# EAGLE library part LIS3DE_TPS61175 (library pendulum_control_board)
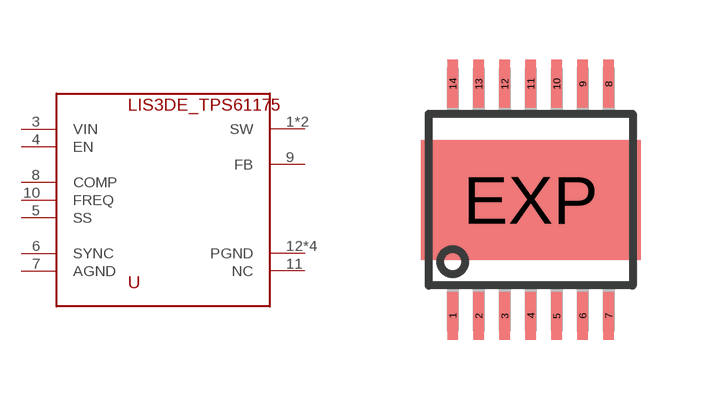
[diagram p6: symbol with the pads of LIS3DE_HTSSOP14PWP; footprint LIS3DE_HTSSOP14PWP]

Designator prefix -

## LIS3DE_TPS61175  [LIS3DE_HTSSOP14PWP]
1  SW
2  SW
3  VIN
4  EN
5  SS
6  SYNC
7  AGND
8  COMP
9  FB
10  FREQ
11  NC
12  PGND
13  PGND
14  PGND
EXP  PGND

## Footprint LIS3DE_HTSSOP14PWP (pad centres in mm)
TPS40055PWP (R-PDSO-G**) PowerPAD (TM) 14 pol. PLASTIC SMALL-OUTLINE PACKAGE Source: www.ti.com ... TPS40055 package.pdf & slma002.pdf
smd 0.27 x 1.2: 1 -1.95,-2.9; 2 -1.3,-2.9; 3 -0.65,-2.9; 4 0,-2.9; 5 0.65,-2.9; 6 1.3,-2.9; 7 1.95,-2.9; 8 1.95,2.9; 9 1.3,2.9; 10 0.65,2.9; 11 0,2.9; 12 -0.65,2.9; 13 -1.3,2.9; 14 -1.95,2.9
smd 5.5 x 3: EXP 0,0